# Altium integrated library vending-pad-002.IntLib: 49 symbols
Pins are listed as number, name and electrical type; pins without a type are passive.

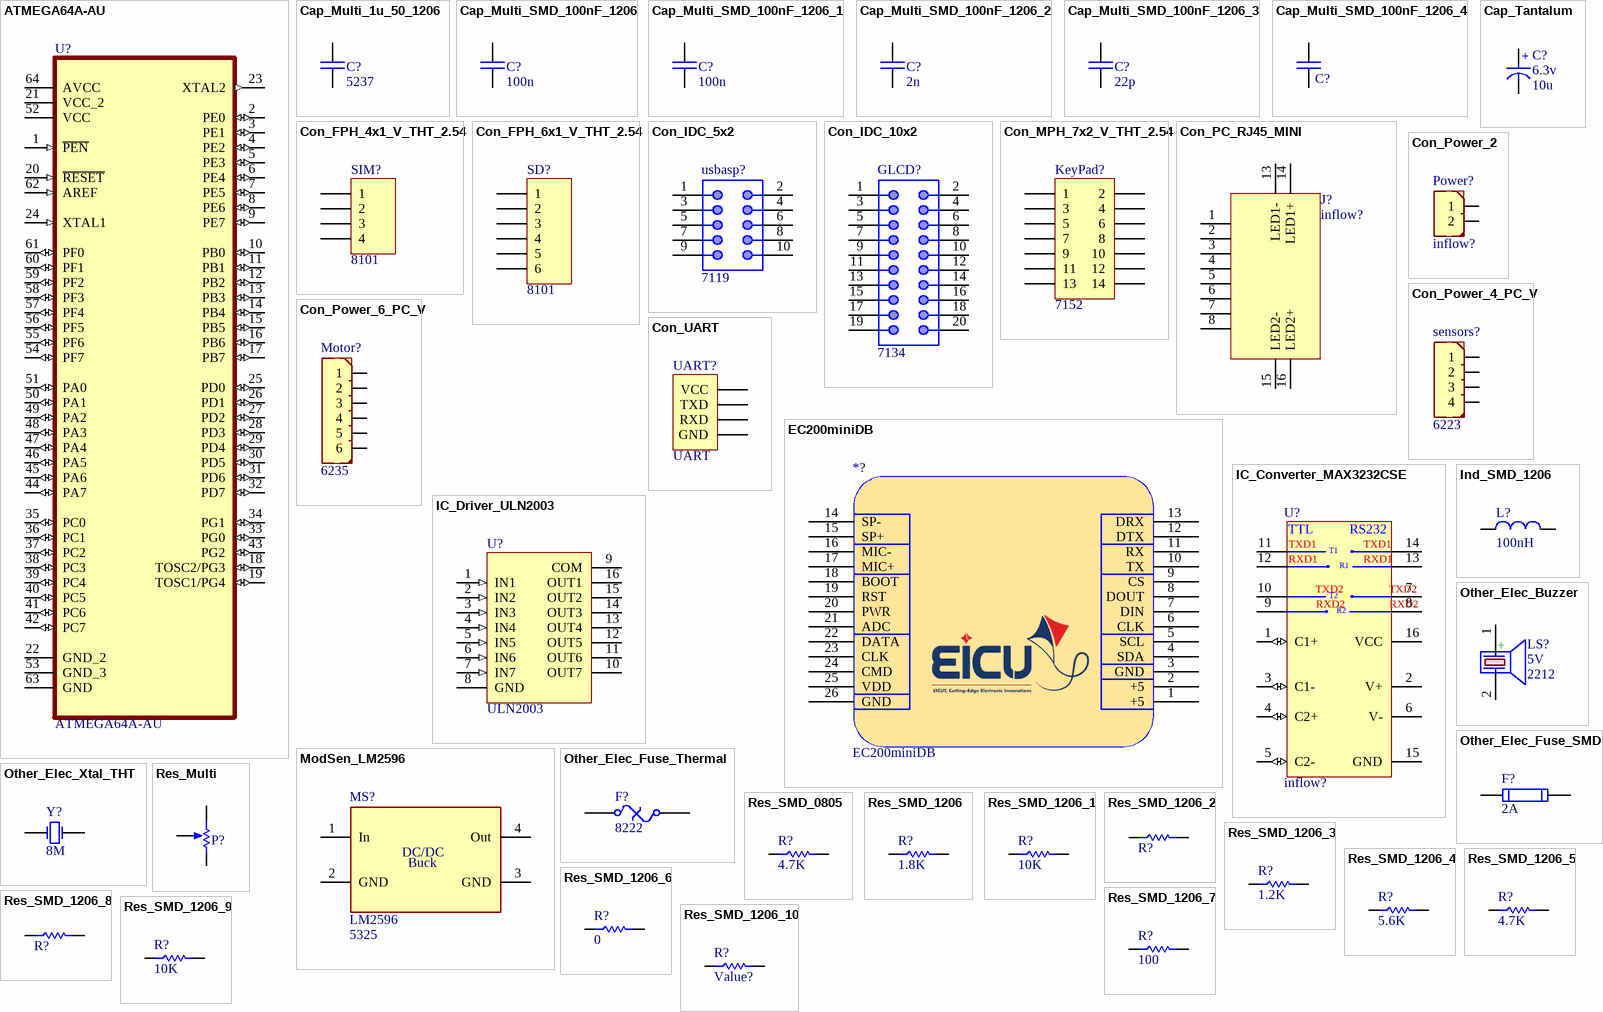
[diagram p0: symbols ATMEGA64A-AU to Res_SMD_1206_10]

## ATMEGA64A-AU
designator U?
AVR AVRÂ® ATmega Microcontroller IC 8-Bit 16MHz 64KB (32K x 16) FLASH 64-TQFP (14x14); MF: Microchip; SnapEDA_Link: https://www.snapeda.com/parts/ATMEGA64A-AU/Microchip/view-part/?ref=snap; Package: TQFP-64 Microchip; Value: *; MP: ATMEGA64A-AU; Check_prices: https://www.snapeda.com/parts/ATMEGA64A-AU/Microchip/view-part/?ref=eda
footprint QFP80P1600X1600X120-64N
pins: 1 ~{PEN} (in), 2 PE0 (io), 3 PE1 (io), 4 PE2 (io), 5 PE3 (io), 6 PE4 (io), 7 PE5 (io), 8 PE6 (io), 9 PE7 (io), 10 PB0 (io), 11 PB1 (io), 12 PB2 (io), 13 PB3 (io), 14 PB4 (io), 15 PB5 (io), 16 PB6 (io), 17 PB7 (io), 18 TOSC2/PG3 (io), 19 TOSC1/PG4 (io), 20 ~{RESET} (in), 21 VCC_2 (power), 22 GND_2, 23 XTAL2 (out), 24 XTAL1 (in), 25 PD0 (io), 26 PD1 (io), 27 PD2 (io), 28 PD3 (io), 29 PD4 (io), 30 PD5 (io), 31 PD6 (io), 32 PD7 (io), 33 PG0 (io), 34 PG1 (io), 35 PC0 (io), 36 PC1 (io), 37 PC2 (io), 38 PC3 (io), 39 PC4 (io), 40 PC5 (io), 41 PC6 (io), 42 PC7 (io), 43 PG2 (io), 44 PA7 (io), 45 PA6 (io), 46 PA5 (io), 47 PA4 (io), 48 PA3 (io), 49 PA2 (io), 50 PA1 (io), 51 PA0 (io), 52 VCC (power), 53 GND_3, 54 PF7 (io), 55 PF6 (io), 56 PF5 (io), 57 PF4 (io), 58 PF3 (io), 59 PF2 (io), 60 PF1 (io), 61 PF0 (io), 62 AREF (in), 63 GND, 64 AVCC (power)

## Cap_Multi_1u_50_1206
designator C?, comment Inflow: 5237  (hidden comment: 1u'F, 50'V)
Bipolar ceramic capacitor SMD; Rating: Rating?; Type: Type?; Validation: Valid; Value: 1u'F, 50'V; Package: Package?
footprint CAP 1206/3216 (Chip Capacitor, 2-Leads, Body 3.25x1.60mm, IPC Medium Density)
pins: 1, 2

## Cap_Multi_SMD_100nF_1206
designator C?, comment 100n
Bipolar ceramic capacitor SMD; Type: MultiLayer; Inflow: inflow?; Rating: 50V; Validation: Valid; Package: 1206; Value: 100n
footprint CAP 1206/3216 (Chip Capacitor, 2-Leads, Body 3.25x1.60mm, IPC Medium Density)
pins: 1, 2

## Cap_Multi_SMD_100nF_1206_1
designator C?, comment 100n
Bipolar ceramic capacitor SMD; Type: MultiLayer; Inflow: inflow?; Rating: 50V; Validation: Valid; Package: 1206; Value: 100n
footprint CAP 1206/3216 (Chip Capacitor, 2-Leads, Body 3.25x1.60mm, IPC Medium Density)
pins: 1, 2

## Cap_Multi_SMD_100nF_1206_2
designator C?, comment 2n
Bipolar ceramic capacitor SMD; Type: MultiLayer; Inflow: inflow?; Rating: 50V; Validation: Valid; Package: 1206; Value: 2n
footprint CAP 1206/3216 (Chip Capacitor, 2-Leads, Body 3.25x1.60mm, IPC Medium Density)
pins: 1, 2

## Cap_Multi_SMD_100nF_1206_3
designator C?, comment 22p
Bipolar ceramic capacitor SMD; Type: MultiLayer; Inflow: inflow?; Rating: 50V; Validation: Valid; Package: 1206; Value: 22p
footprint CAP 1206/3216 (Chip Capacitor, 2-Leads, Body 3.25x1.60mm, IPC Medium Density)
pins: 1, 2

## Cap_Multi_SMD_100nF_1206_4
designator C?
Bipolar ceramic capacitor SMD; Type: MultiLayer; Inflow: inflow?; Rating: 50V; Validation: Valid; Package: 1206
footprint CAP 1206/3216 (Chip Capacitor, 2-Leads, Body 3.25x1.60mm, IPC Medium Density)
pins: 1, 2

## Cap_Tantalum
designator C?, comment Rating: 6.3v  (hidden comment: 10u)
Tantalum Capacitor,TAJ Series-SMD; Inflow: inflow?; Validation: Valid; Package: Package?; Type: Tantalum; Value: 10u
footprint SMT_C_Tantalum_A (Capacitor, SM Tantalum; Body 3.2 x 1.6 mm (LxW typ))
footprint SMT_C_Tantalum_B (Capacitor, SM Tantalum; Body 3.5 x 2.8 mm (LxW typ))
footprint SMT_C_Tantalum_C (Capacitor, SM Tantalum; Body 6.0 x 3.2 mm (LxW typ))
footprint SMT_C_Tantalum_D (Capacitor, SM Tantalum; Body 7.3 x 4.3 mm (LxW typ))
footprint SMT_C_Tantalum_E (Capacitor, SM Tantalum; Body 7.3 x 6.0 mm (LxW typ))
footprint SMT_C_Tantalum_R (Capacitor, SM Tantalum; Body 2.0 x 1.3 mm (LxW typ))
footprint SMT_C_Tantalum_S (Capacitor, SM Tantalum; Body 3.2 x 1.6 mm (LxW typ))
footprint SMT_C_Tantalum_T (Capacitor, SM Tantalum; Body 3.5 x 2.8 mm (LxW typ))
footprint SMT_C_Tantalum_U (Capacitor, SM Tantalum; Body 6.0 x 3.2 mm (LxW typ))
footprint SMT_C_Tantalum_V (Capacitor, SM Tantalum; Body 7.3 x 4.3 mm (LxW typ))
footprint SMT_C_Tantalum_X (Capacitor, SM Tantalum; Body 7.3 x 4.3 mm (LxW typ))
pins: 1 +, 2 -

## Con_FPH_4x1_V_THT_2.54
designator SIM?, comment Inflow: 8101  (hidden comment: 4)
Header, single row, 4 pin; Rating: Rating?; Validation: NT; Value: 4; Package: Package?; Type: Type?
footprint HDR_THT_4F_2.54mm (Pin Header, pitch 2.54 mm, THT, Vertical, single row, 4p)
footprint HDR_SMD_4F_2.54mm (Socket Header, Pitch 2.54 mm, SMT, Vertical, single row, 4p)
footprint HDR_SMD_4F_2.54mm_ (Socket Header, Pitch 2.54 mm, SMT, Vertical, single row, 4p)
footprint HDR_THT_4F_2mm (Socket Header, Pitch 2.00 mm, THT, Vertical, single row, 4p)
footprint HDR_THT_4F_2.54mm_military (Pin Header, pitch 2.54 mm, THT, Vertical, single row, 4p)
pins: 1, 2, 3, 4

## Con_FPH_6x1_V_THT_2.54
designator SD?, comment Inflow: 8101  (hidden comment: 6)
Header, single row, 6 pin; Rating: Rating?; Validation: NT; Value: 6; Package: Package?; Type: Type?
footprint HDR_THT_6F_2.54mm (Pin Header, pitch 2.54 mm, THT, Vertical, single row, 6p)
footprint HDR_SMD_6F_2.54mm (Socket Header, Pitch 2.54 mm, SMT, Vertical, single row, 6p)
footprint HDR_SMD_6F_2.54mm_ (Socket Header, Pitch 2.54 mm, SMT, Vertical, single row, 6p)
footprint HDR_THT_6F_2mm (Socket Header, Pitch 2.00 mm, THT, Vertical, single row, 6p)
footprint HDR_THT_6F_2.54mm_military (Pin Header, pitch 2.54 mm, THT, Vertical, single row, 6p)
pins: 1, 2, 3, 4, 5, 6

## Con_IDC_5x2
designator usbasp?, comment Inflow: 7119  (hidden comment: 5x2)
Male Box Header, 10 pins; Rating: Rating?; Validation: NT; Value: 5x2; Package: Package?; Type: Type?
footprint BOX-HDR-SMD-5X2-2.00mm-S (2.00mm Male SMT Box Header, 10p)
footprint BOX-HDR-5X2-2.54mm-S (10 pins, straight, gold plating)
footprint BOX-HDR-5X2-2.54mm-RA (10 pins, right angled, gold plating)
footprint BOX-HDR-5X2-2.54mm-SL (10 pins, straight, short lever, gold plating)
footprint BOX-HDR-5X2-2.54mm-RA-SL (10 pins, right angeled, short lever, gold plating)
footprint BOX-HDR-5X2-2.54mm-LL (10 pins, straight, long lever, gold plating)
footprint BOX-HDR-5X2-2.54mm-RA-LL (10 pins, right angeled, long lever, gold plating)
footprint BOX-HDR-5X2-2.00mm-RA-L (2.00mm Male Angled Box Header with Lever, 10p)
footprint BOX-HDR-5X2-2.00mm-RA (2.00mm Male Angled Box Header, 10p)
footprint BOX-HDR-5X2-2.00mm-S (2.00mm Male Box Header, 10p)
footprint BOX-HDR-5X2-2.00mm-L (2.00mm Male Box Header with Lever, 10p)
footprint BOX-HDR-SMD-5X2-2.54mm-S (10 pins, SMT, straight, gold plating)
footprint IDC2.54-10PIN - CROSS (Connector; IDC, Low Profile Male Header, Thru-Hole; 10 Position; Vertical; Pitch 2.54 mm; 20.32 x 9.2 x 9.45 mm (LxWxH) DESIGNER : ABBAS BASEREH)
pins: 1, 2, 3, 4, 5, 6, 7, 8, 9, 10

## Con_IDC_10x2
designator GLCD?, comment Inflow: 7134  (hidden comment: 10x2)
Male Box Header, 20 pins; Rating: Rating?; Validation: NT; Value: 10x2; Package: Package?; Type: Type?
footprint BOX-HDR-SMD-10X2-2.54mm-S (20 pins, SMT, straight, gold plating)
footprint BOX-HDR-10X2-2.54mm-S (20 pins, straight, gold plating)
footprint BOX-HDR-10X2-2.54mm-RA (20 pins, right angled, gold plating)
footprint BOX-HDR-10X2-2.54mm-SL (20 pins, straight, short lever, gold plating)
footprint BOX-HDR-10X2-2.54mm-RA-SL (20 pins, right angeled, short lever, gold plating)
footprint BOX-HDR-10X2-2.54mm-LL (20 pins, straight, long lever, gold plating)
footprint BOX-HDR-10X2-2.54mm-RA-LL (20 pins, right angeled, long lever, gold plating)
footprint BOX-HDR-10X2-2.00mm-RA (2.00mm Male Angled Box Header, 20p)
footprint BOX-HDR-10X2-2.00mm-L (2.00mm Male Box Header with Lever, 20p)
footprint BOX-HDR-10X2-2.00mm-RA-L (2.00mm Male Angled Box Header with Lever, 20p)
footprint BOX-HDR-10X2-2.00mm-S (2.00mm Male Box Header, 20p)
footprint BOX-HDR-SMD-10X2-2.00mm-S (2.00mm Male SMT Box Header, 20p)
pins: 1, 2, 3, 4, 5, 6, 7, 8, 9, 10, 11, 12, 13, 14, 15, 16, 17, 18, 19, 20

## Con_MPH_7x2_V_THT_2.54
designator KeyPad?, comment Inflow: 7152  (hidden comment: 7x2)
Header, dual row, 14 pin; Rating: Rating?; Validation: NT; Value: 7x2; Package: Package?; Type: Type?
footprint HDR_THT_7x2M_2.54mm (Pin Header, pitch 2.54 mm, THT, Vertical, dual row, 14p)
footprint HDR_THT_7x2M_1.27mm (Pin Header, pitch 1.27 mm, THT, Vertical, dual row, 14p)
footprint HDR_SMD_7x2M_2.54mm (Pin Header, pitch 2.54 mm, SMD, Vertical, dual row, 14p)
footprint HDR_SMD_7x2M_2mm (Pin Header, pitch 2.00 mm, SMD, Vertical, dual row, 14p)
footprint HDR_SMD_7x2M_1.27mm (Pin Header, pitch 1.27 mm, SMD, Vertical, dual row, 14p)
footprint HDR_SMD_7x2M_2.54mm_RA (Pin Header, pitch 2.54 mm, SMD, Angled, dual row, 14p)
footprint HDR_THT_7x2M_2.54mm_RA (Pin Header, pitch 2.54 mm, THT, Angled, dual row, 14p)
pins: 1, 2, 3, 4, 5, 6, 7, 8, 9, 10, 11, 12, 13, 14

## Con_PC_RJ45_MINI
designator J?, comment Inflow: inflow?  (hidden comment: RJ45, mini)
RJ45 Mini With two LEDs; Rating: Rating?; Validation: NT; Value: RJ45, mini; Package: Package?; Type: Type?
footprint RJ45_MINI (RJ45 MiniWith LED)
pins: 1, 2, 3, 4, 5, 6, 7, 8, 13 LED1-, 14 LED1+, 15 LED2-, 16 LED2+

## Con_Power_2
designator Power?, comment Inflow: inflow?  (hidden comment: 2'Pin)
Power Connector 2'Pin; Rating: Rating?; Validation: NT; Value: 2'Pin; Package: Package?; Type: Type?
footprint TE 282834-2
footprint Socket_Blue_2
footprint PRKR2A
footprint Molex-2pin
footprint CON_MKDSN1,5/2-5,08
footprint CON_MSTBA02
footprint MSTBV 2,5/2-G-5 (Header, Nominal current: 12 A Rated voltage (III/2): 320 V Number of positions: 2 Pitch: 5mm Color: green Contact surface: Tin Assembly: Soldering DESIGNER:ABBAS BASEREH)
footprint MSTB 2,5/2-G-5,08 (Header, Nominal current: 12 A Rated voltage (III/2): 320 V Number of positions: 2 Pitch: 5.08 mm Color: green Contact surface: Tin Assembly: Soldering DESIGNER:ABBAS BASEREH)
footprint 2Pin
footprint 645002114822 (3.96mm Male Locking Header, 2p)
footprint 645002117322 (3.96mm Male Right Angled Locking Header, 2p)
footprint TMS_2R (Connector; TMS Sereis; 2 Position ,2.54mm Pitch)
footprint Phoenix_2PIN_RA_P7.62mm (Phoenix 2 Pin; Pitch 7.62mm;)
footprint Phoenix_2PIN_RA_P5.08mm (Phoenix 2 Pin; Pitch 5.08mm; Body 1016X1200)
footprint Phoenix_2PIN_RA_P5.00mm (Phoenix 2 Pin; Pitch 5.08mm;)
footprint Phoenix_2PIN_RA_P3.81mm (Phoenix 2 Pin; Pitch 3.81mm;)
footprint Phoenix_2PIN_RA_P3.50mm (Phoenix 2 Pin; Pitch 3.50mm;)
footprint Phoenix_2PIN_RA_P2.50mm (Phoenix 2 Pin; Pitch 2.50mm;)
footprint Terminal_2Pin_P5.00mm (Terminal Block; 2Pin; Pitch 5.00mm; Body 1000x900mm)
footprint Terminal_2Pin_P5.08mm (Terminal Block; 2 Pin; Pitch 5.08mm;)
footprint KF-65-2
footprint KF-55-2
footprint KF-45-2
footprint KF-35-2
footprint KF762_2Pin_P7.62mm (Terminal Block; 2Pin; Pitch 7.62mm; Body 1614x1220mm)
pins: 1, 2

## Con_Power_4_PC_V
designator sensors?, comment Inflow: 6223  (hidden comment: 4'Pin)
4'Pin Power Connector; Rating: Rating?; Validation: Valid; Value: 4'Pin; Package: Package?; Type: Type?
footprint 645004114822 (3.96mm Male Locking Header, 4p)
pins: 1, 2, 3, 4

## Con_Power_6_PC_V
designator Motor?, comment Inflow: 6235  (hidden comment: 6'Pin)
6'Pin Power Connector; Rating: Rating?; Validation: Valid; Value: 6'Pin; Package: Package?; Type: Type?
footprint 645006114822 (3.96mm Male Locking Header, 6p)
pins: 1, 2, 3, 4, 5, 6

## Con_UART
designator UART?, comment UART
UART Connector; Rating: Rating?; Validation: Valid; Inflow: 4528; Package: Package?; Type: Type?; Value: UART
footprint MOLEX KK 0022272041
footprint JST XH B4B-XH-A
footprint JST XH B4B-XH-A - RIGHT
footprint HDR 1X4 (Connector; Header; 4 Position)
footprint Molex sda-70553-4pin (SL Right Angle Header W/LAtch & Trip-Pegs 2.54mm Centres)
pins: 1 VCC, 2 TXD, 3 RXD, 4 GND

## EC200miniDB
designator *?
EICUT.com
footprint PCBComponent_1
pins: 1 +5, 2 +5, 3 GND, 4 SDA, 5 SCL, 6 CLK, 7 DIN, 8 DOUT, 9 CS, 10 TX, 11 RX, 12 DTX, 13 DRX, 14 SP-, 15 SP+, 16 MIC-, 17 MIC+, 18 BOOT, 19 RST, 20 PWR, 21 ADC, 22 DATA, 23 CLK, 24 CMD, 25 VDD, 26 GND

## IC_Converter_MAX3232CSE
designator U?, comment Inflow: inflow?  (hidden comment: MAX3232)
RS-232 Interface IC 3.0V to 5.5V, Low-Power, up to 1Mbps, True RS-232 Transceivers Using Four 0.1uF External Capacitors; Rating: Rating?; Validation: Valid; Value: MAX3232; Package: SOIC-16; Type: RS232
footprint NSO16_L (SOIC, 16-Leads, Body 9.9x3.9mm, Pitch 1.27mm, IPC High Density)
footprint NSO16_M (SOIC, 16-Leads, Body 9.9x3.9mm, Pitch 1.27mm, IPC Low Density)
footprint NSO16_N (SOIC, 16-Leads, Body 9.9x3.9mm, Pitch 1.27mm, IPC Medium Density)
pins: 1 C1+ (io), 2 V+ (power), 3 C1- (io), 4 C2+ (io), 5 C2- (io), 6 V- (power), 7 T2OUT, 8 R2IN, 9 R2OUT, 10 T2IN, 11 T1IN, 12 R1OUT, 13 R1IN, 14 T1OUT, 15 GND (power), 16 VCC (power)
text: TTL; TXD1; T1; RXD1; R1; TXD2; T2; RXD2; R2

## IC_Driver_ULN2003
designator U?, comment ULN2003
Seven darlington array drivers; Rating: Rating?; Validation: Valid; Inflow: 1506; Package: SO-16; Type: Driver; Value: ULN2003
footprint SO16_L (16-Pin Small Outline Integrated Circuit 1.27 mm Pitch, IPC High Density - DESIGNER ABBAS BASEREH)
footprint SO16_M (16-Pin Small Outline Integrated Circuit 1.27 mm Pitch, IPC Low Density - DESIGNER ABBAS BASEREH)
footprint SO16_N (16-Pin Small Outline Integrated Circuit 1.27 mm Pitch, IPC Medium Density - DESIGNER ABBAS BASEREH)
footprint CDIP16 (16-Pin Ceramic DIP (DD16) NARROW_(300mil width) - 100mil pitch)
pins: 1 IN1 (in), 2 IN2 (in), 3 IN3 (in), 4 IN4 (in), 5 IN5 (in), 6 IN6 (in), 7 IN7 (in), 8 GND (power), 9 COM, 10 OUT7 (oc), 11 OUT6 (oc), 12 OUT5 (oc), 13 OUT4 (oc), 14 OUT3 (oc), 15 OUT2 (oc), 16 OUT1 (oc)

## Ind_SMD_1206
designator L?, comment 100nH
Inductor; Inflow: inflow?; Type: SMD; Rating: Rating?; Validation: Valid; Package: 1206; Value: 100nH
footprint IND1206 (Chip Inductor, 2-Leads, Body 3/20x1/60mm, IPC Medium Density DESIGNER:ABBAS BASEREH)
footprint IND0805 (Chip Inductor, 2-Leads, Body 2/00x1/25mm, IPC Medium Density DESIGNER:ABBAS BASEREH)
pins: 1, 2

## ModSen_LM2596
designator MS?, comment Inflow: 5325  (hidden comment: LM2596)
DC to DC Buck converter 1.23V-30V 3A; Rating: Rating?; Validation: Valid; Package: Package?; Type: Type?; Value: LM2596
footprint LM2596_modsen
footprint LM2596_modsen _SMD
pins: 1 In (power), 2 GND (power), 3 GND (power), 4 Out (power)
text: DC/DC; Buck

## Other_Elec_Buzzer
designator LS?, comment Inflow: 2212  (hidden comment: 5V)
Magnetic Transducer Buzzer; Rating: 12mm; Validation: Valid; Type: Buzzer; Package: Dip; Value: 5V
footprint BZ_SJ
footprint BZ_ABSM-1574 (Footprint not found)
footprint BZ_B/C11L
footprint BZ_B/C11S
footprint BZ_B/C14L
footprint BZ_B/C14S
footprint BZ_B/C17L
footprint BZ_B/C17S
footprint BZ_BMT1205XH7.5
footprint BZ_BPT-24X
footprint BZ_EB2209A
footprint BZ_EB2505
footprint BZ_EFBAA40D101
footprint BZ_EFBRD22C41
footprint BZ_EFBRD22C413
footprint BZ_EFBRD24C411
footprint BZ_F/BC35
footprint BZ_F/BC40
footprint BZ_F/CM04P
footprint BZ_F/CM12P
footprint BZ_F/DB18
footprint BZ_F/EB20P
footprint BZ_F/EE17P
footprint BZ_F/EE21P
footprint BZ_F/HGP
footprint BZ_F/HMB
footprint BZ_F/QMB
footprint BZ_F/QMBIII
footprint BZ_F/QMX
footprint BZ_F/TMB
footprint BUZZER 7.62mm DC (BUZZER 12mm DIA , 7.62mm pitch DESIGNER ABBAS BASEREH)
pins: 1 +, 2 -
4 alternate drawings of the same symbol

## Other_Elec_Fuse_SMD
designator F?, comment 2A
Short circiut  protection; Inflow: inflow?; Type: Fast; Rating: Rating?; Validation: Valid; Package: 1206; Value: 2A
footprint 1206 fuse (Fast Acting Smd 1206 non-Resettable Fuse Chip For Pcb Board-Design:Abbas Basereh)
footprint 0402_F (Surface mount FUSE 0402)
footprint 0603_F (Surface mount FUSE 0603)
footprint 0805_F (Surface mount FUSE 0805)
footprint 1206_F (Surface mount FUSE 1206)
footprint 1812_F (Surface mount FUSE 1812)
footprint 2010_F
footprint 2512_F
pins: 1, 2

## Other_Elec_Fuse_Thermal
designator F?, comment Inflow: 8222  (hidden comment: 180'C, 10'A)
Thermal Fuse; Rating: Rating?; Type: Type?; Validation: NT; Value: 180'C, 10'A; Package: Package?
footprint PIN-W2/E2.8 (Thru-Hole; 2 Leads)
pins: 1, 2

## Other_Elec_Xtal_THT
designator Y?, comment 8M
Crystal Oscillator; Rating: Rating?; Inflow: inflow?; Validation: Valid; Type: Quartz; Package: Dip; Value: 8M
footprint XTAL
footprint XTAL Small
footprint XTAL RTC - V
footprint XTAL RTC - H
footprint R38 (Crystal, Thru-Hole; 2 Leads; Body 3.1 x 8.2 mm (Dia.xH))
footprint XTAL_BIG
pins: 1 OSC1, 2 OSC2

## Res_Multi
designator P?, comment 10K  (value not drawn)
Multi Turn; Rating: Rating?; Validation: Valid; Inflow: inflow?; Package: Package?; Type: Type?; Value: 10K
footprint POT '
footprint POT
footprint POT"
footprint Multi turn 01 (Stand Multi Turn - Turning CW Increase P1~2 Resistor)
footprint Pot 00
pins: 1 3, 2, 3 1

## Res_SMD_0805
designator R?, comment value 4.7K  (hidden comment: Value?)
Resistor; Inflow: inflow?; Rating: 0.125W; Validation: Valid; Package: 0805; Type: 10%
footprint RES 0805 (2012X06L) (Chip Resistor, 2-Leads, Body 2.0x1.3mm, IPC High Density _ (0.100 W))
footprint RES 1206 (3216X08L)
pins: 1, 2

## Res_SMD_1206
designator R?, comment 1.8K
Resistor; Inflow: inflow?; Rating: 0.25W; Validation: Valid; Package: 1206; Type: 10%; Value: 1.8K
footprint RES 1206 (3216X08L) (Chip Resistor, 2-Leads, Body 3.2x1.6mm, IPC High Density _ (0.125 W))
pins: 1, 2

## Res_SMD_1206_1
designator R?, comment 10K
Resistor; Inflow: inflow?; Rating: 0.25W; Validation: Valid; Package: 1206; Type: 10%; Value: 10K
footprint RES 1206 (3216X08L) (Chip Resistor, 2-Leads, Body 3.2x1.6mm, IPC High Density _ (0.125 W))
pins: 1, 2

## Res_SMD_1206_2
designator R?, comment 47K  (value not drawn)
Resistor; Inflow: inflow?; Rating: 0.25W; Validation: Valid; Package: 1206; Type: 10%; Value: 47K
footprint RES 1206 (3216X08L) (Chip Resistor, 2-Leads, Body 3.2x1.6mm, IPC High Density _ (0.125 W))
pins: 1, 2

## Res_SMD_1206_3
designator R?, comment value 1.2K  (hidden comment: 1K)
Resistor; Inflow: inflow?; Rating: 0.25W; Validation: Valid; Package: 1206; Type: 10%
footprint RES 1206 (3216X08L) (Chip Resistor, 2-Leads, Body 3.2x1.6mm, IPC High Density _ (0.125 W))
pins: 1, 2

## Res_SMD_1206_4
designator R?, comment 5.6K
Resistor; Inflow: inflow?; Rating: 0.25W; Validation: Valid; Package: 1206; Type: 10%; Value: 5.6K
footprint RES 1206 (3216X08L) (Chip Resistor, 2-Leads, Body 3.2x1.6mm, IPC High Density _ (0.125 W))
pins: 1, 2

## Res_SMD_1206_5
designator R?, comment 4.7K
Resistor; Inflow: inflow?; Rating: 0.25W; Validation: Valid; Package: 1206; Type: 10%; Value: 4.7K
footprint RES 1206 (3216X08L) (Chip Resistor, 2-Leads, Body 3.2x1.6mm, IPC High Density _ (0.125 W))
pins: 1, 2

## Res_SMD_1206_6
designator R?, comment 0
Resistor; Inflow: inflow?; Rating: 0.25W; Validation: Valid; Package: 1206; Type: 10%; Value: 0
footprint RES 1206 (3216X08L) (Chip Resistor, 2-Leads, Body 3.2x1.6mm, IPC High Density _ (0.125 W))
pins: 1, 2

## Res_SMD_1206_7
designator R?, comment 100
Resistor; Inflow: inflow?; Rating: 0.25W; Validation: Valid; Package: 1206; Type: 10%; Value: 100
footprint RES 1206 (3216X08L) (Chip Resistor, 2-Leads, Body 3.2x1.6mm, IPC High Density _ (0.125 W))
pins: 1, 2

## Res_SMD_1206_8
designator R?
Resistor; Inflow: inflow?; Rating: 0.25W; Validation: Valid; Package: 1206; Type: 10%
footprint RES 1206 (3216X08L) (Chip Resistor, 2-Leads, Body 3.2x1.6mm, IPC High Density _ (0.125 W))
pins: 1, 2

## Res_SMD_1206_9
designator R?, comment value 10K  (hidden comment: 4.7K)
Resistor; Inflow: inflow?; Rating: 0.25W; Validation: Valid; Package: 1206; Type: 10%
footprint RES 1206 (3216X08L) (Chip Resistor, 2-Leads, Body 3.2x1.6mm, IPC High Density _ (0.125 W))
pins: 1, 2

## Res_SMD_1206_10
designator R?, comment value Value?  (hidden comment: 47K)
Resistor; Inflow: inflow?; Rating: 0.25W; Validation: Valid; Package: 1206; Type: 10%
footprint RES 1206 (3216X08L) (Chip Resistor, 2-Leads, Body 3.2x1.6mm, IPC High Density _ (0.125 W))
pins: 1, 2

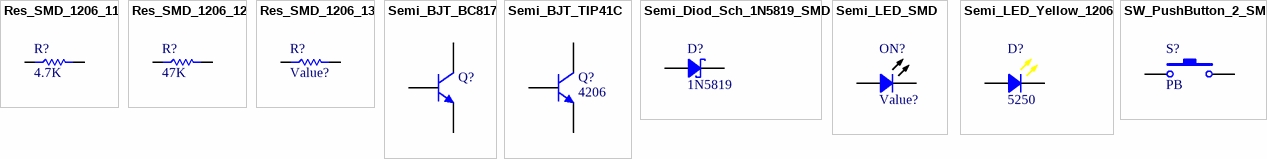
[diagram p1: symbols Res_SMD_1206_11 to SW_PushButton_2_SMD]

## Res_SMD_1206_11
designator R?, comment value 4.7K  (hidden comment: Value?)
Resistor; Inflow: inflow?; Rating: 0.25W; Validation: Valid; Package: 1206; Type: 10%
footprint RES 1206 (3216X08L) (Chip Resistor, 2-Leads, Body 3.2x1.6mm, IPC High Density _ (0.125 W))
pins: 1, 2

## Res_SMD_1206_12
designator R?, comment value 47K  (hidden comment: 4.7K)
Resistor; Inflow: inflow?; Rating: 0.25W; Validation: Valid; Package: 1206; Type: 10%
footprint RES 1206 (3216X08L) (Chip Resistor, 2-Leads, Body 3.2x1.6mm, IPC High Density _ (0.125 W))
pins: 1, 2

## Res_SMD_1206_13
designator R?, comment Value?
Resistor; Inflow: inflow?; Rating: 0.25W; Validation: Valid; Package: 1206; Type: 10%; Value: Value?
footprint RES 1206 (3216X08L) (Chip Resistor, 2-Leads, Body 3.2x1.6mm, IPC High Density _ (0.125 W))
pins: 1, 2

## Semi_BJT_BC817
designator Q?, comment NPN  (value not drawn)
NPN General purpose Transistor; Rating: Rating?; Type: Type?; Validation: Valid; Inflow: inflow?; Value: NPN; Package: Package?
footprint SOT23_N (SOT23, 3-Leads, Body 2.9x1.3mm, Pitch 0.95mm, Lead Span 2.3mm, IPC Medium Density)
footprint SOT23_L (SOT23, 3-Leads, Body 2.9x1.3mm, Pitch 0.95mm, Lead Span 2.3mm, IPC High Density)
footprint SOT23_M (SOT23, 3-Leads, Body 2.9x1.3mm, Pitch 0.95mm, Lead Span 2.3mm, IPC Low Density)
pins: 1 B, 2 E, 3 C

## Semi_BJT_TIP41C
designator Q?, comment Inflow: 4206  (hidden comment: NPN)
NPN Power transistor; Rating: Rating?; Type: Type?; Validation: NT; Value: NPN; Package: Package?
footprint TO-220 AB WITH HEAT SINK (Epoxy meets UL94, V0)
footprint TO-220 AB (Epoxy meets UL94, V0)
footprint TO-220 AB S (Epoxy meets UL94, V0)
footprint TO-220 AB WITH HEAT SINK ASM
footprint TO-220 AB with heatsink ya25 (Epoxy meets UL94, V0-Design:Abbas Basereh)
pins: 1 B, 2 C, 3 E

## Semi_Diod_Sch_1N5819_SMD
designator D?, comment 1N5819
Schottky Rectifiers; Rating: Rating?; Validation: Valid; Inflow: inflow?; Package: SMA; Type: Schottky; Value: 1N5819
footprint 430X270D (SMA Molded Diode, 2-Leads, Body 4.3x2.7mm)
footprint diode (Diode, Axial; Body 5.2 x 2.7 mm (LxDia. max), Lead Dia. 0.86 mm (max))
pins: 1, 2

## Semi_LED_SMD
designator ON?, comment Value?
LED; Inflow: inflow?; Rating: Rating?; Validation: Valid; Package: Package?; Type: LED; Value: Value?
footprint LED 0402/1005 (Chip Diode, 2-Leads, Body 1.00x0.50mm, IPC Medium Density)
footprint LED 0402/1005 BLUE (Chip Diode, 2-Leads, Body 1.00x0.50mm, IPC Medium Density)
footprint LED 0402/1005 GREEN (Chip Diode, 2-Leads, Body 1.00x0.50mm, IPC Medium Density)
footprint LED 0402/1005 RED (Chip Diode, 2-Leads, Body 1.00x0.50mm, IPC Medium Density)
footprint LED 0402/1005 YELLOW (Chip Diode, 2-Leads, Body 1.00x0.50mm, IPC Medium Density)
footprint LED 0603/1608 (Chip Diode, 2-Leads, Body 1.60x0.80mm, IPC Medium Density)
footprint LED 0603/1608 BLUE (Chip Diode, 2-Leads, Body 1.60x0.80mm, IPC Medium Density)
footprint LED 0603/1608 GREEN (Chip Diode, 2-Leads, Body 1.60x0.80mm, IPC Medium Density)
footprint LED 0603/1608 RED (Chip Diode, 2-Leads, Body 1.60x0.80mm, IPC Medium Density)
footprint LED 0603/1608 YELLOW (Chip Diode, 2-Leads, Body 1.60x0.80mm, IPC Medium Density)
footprint LED 0805/2012 (Chip Diode, 2-Leads, Body 2.00x1.25mm, IPC Medium Density)
footprint LED 0805/2012 BLUE (Chip Diode, 2-Leads, Body 2.00x1.25mm, IPC Medium Density)
footprint LED 0805/2012 GREEN (Chip Diode, 2-Leads, Body 2.00x1.25mm, IPC Medium Density)
footprint LED 0805/2012 RED (Chip Diode, 2-Leads, Body 2.00x1.25mm, IPC Medium Density)
footprint LED 0805/2012 YELLOW (Chip Diode, 2-Leads, Body 2.00x1.25mm, IPC Medium Density)
footprint LED 1206/3216 (Chip Diode, 2-Leads, Body 3.13x1.55mm, IPC Medium Density)
footprint LED 1206/3216 BLUE (Chip Diode, 2-Leads, Body 3.13x1.55mm, IPC Medium Density)
footprint LED 1206/3216 GREEN (Chip Diode, 2-Leads, Body 3.13x1.55mm, IPC Medium Density)
footprint LED 1206/3216 RED (Chip Diode, 2-Leads, Body 3.13x1.55mm, IPC Medium Density)
footprint LED 1206/3216 YELLOW (Chip Diode, 2-Leads, Body 3.13x1.55mm, IPC Medium Density)
footprint LED_0805_BLUE (Surface mount LED 0805)
footprint LED_0805_WHITE (Surface mount LED 0805)
footprint LED_0805_Red (Surface mount LED 0805)
footprint LED_0805_GREEN (Surface mount LED 0805)
footprint LED_0402 (Surface mount LED 0402)
footprint LED_0603 (Surface mount LED 0603)
pins: 1, 2

## Semi_LED_Yellow_1206
designator D?, comment Inflow: 5250  (hidden comment: Yellow, 1206)
LED; Rating: Rating?; Type: Type?; Validation: Valid; Value: Yellow, 1206; Package: Package?
footprint LED 1206/3216 YELLOW (Chip Diode, 2-Leads, Body 3.13x1.55mm, IPC Medium Density)
pins: 1, 2

## SW_PushButton_2_SMD
designator S?, comment PB
SMT Tactile ‎Switch; Rating: 2b; Validation: Valid; Inflow: 8260; Type: Vertical; Package: SMD; Value: PB
footprint SW_PB_SMD_2PIN_SPST_6X3X5_R (SWITCH, PUSHBUTTON, SMD, SPST, RIGHT)
footprint SW_PB_SMD_2PIN_SPST_6X3X5 (SWITCH, PUSHBUTTON, SMD, SPST, 6X3.5mm, SKQMBBE010, 50000 Cycles, 1.57N Force)
footprint SW_PB_SMD_2PIN_SPST_6X3X2 (SWITCH, PUSHBUTTON, SMD, SPST, 6X3.5X2.5mm, RS-282G05A3, SKQYPA, 50000 Cycles)
footprint SW_PB_SMD_2PIN_SPST_3X2X1 (SWITCH, PUSHBUTTON, SMD, SPST, 3X2.5mm)
footprint SW_PB_SMD_2PIN_SPST_PTS820 (SMT Tactile Switch PTS 820 Series)
pins: 1, 2